# EAGLE library part LM1886 (library tk90)
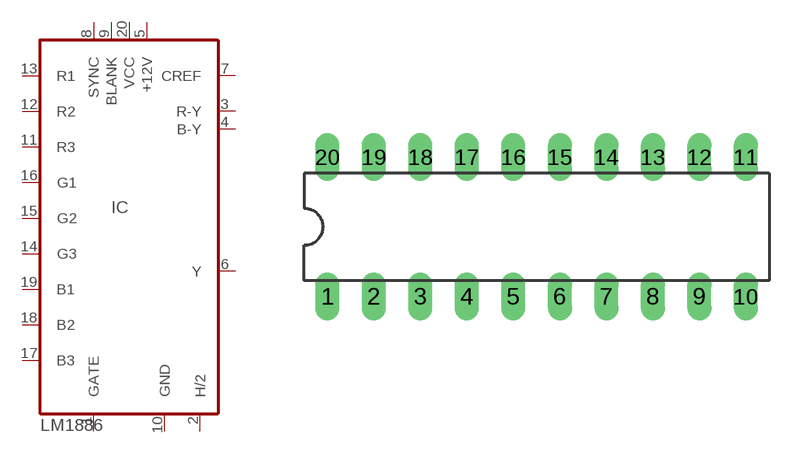
[diagram p15: symbol with the pads of DIL20; footprint DIL20]

Designator prefix IC

## LM1886N  [DIL20]
1  GATE  in
2  H/2  in
3  R-Y  out
4  B-Y  out
5  +12V  pwr
6  Y  out
7  CREF  in
8  SYNC  in
9  BLANK  in
10  GND  pwr
11  R3  in
12  R2  in
13  R1  in
14  G3  in
15  G2  in
16  G1  in
17  B3  in
18  B2  in
19  B1  in
20  VCC  pwr

## Footprint DIL20 (pad centres in mm)
Dual In Line Package
drill 0.813 long: 1 -11.43,-3.81; 2 -8.89,-3.81; 3 -6.35,-3.81; 4 -3.81,-3.81; 5 -1.27,-3.81; 6 1.27,-3.81; 7 3.81,-3.81; 8 6.35,-3.81; 9 8.89,-3.81; 10 11.43,-3.81; 11 11.43,3.81; 12 8.89,3.81; 13 6.35,3.81; 14 3.81,3.81; 15 1.27,3.81; 16 -1.27,3.81; 17 -3.81,3.81; 18 -6.35,3.81; 19 -8.89,3.81; 20 -11.43,3.81